# EAGLE library part ATECC608A-SSHDA (library ICs)
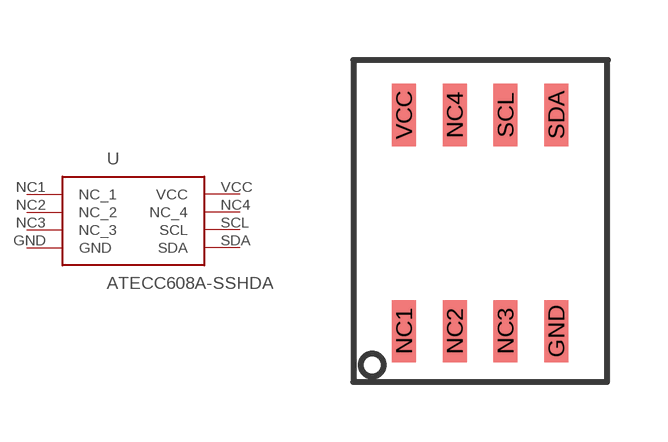
[diagram p1: symbol with the pads of 8-SOIC; footprint 8-SOIC]

Designator prefix -

## ATECC608A-SSHDA  [8-SOIC]
GND  GND  pwr
NC1  NC_1  nc
NC2  NC_2  nc
NC3  NC_3  nc
NC4  NC_4  nc
SCL  SCL
SDA  SDA
VCC  VCC  pwr

## Footprint 8-SOIC (pad centres in mm)
8-Lead Plastic DFN (MN)
smd 0.6 x 1.55: GND 3.81,0; NC1 0,0; NC2 1.27,0; NC3 2.54,0; NC4 1.27,5.4; SCL 2.54,5.4; SDA 3.81,5.4; VCC 0,5.4